# Altium footprint library micron-packages.PcbLib: 3 footprints
Each footprint in its own frame and in the unit in brackets; x right, y up, seen from the top. Pads: shape width x height; smd on the part's side, far side on the other; paste and mask are expansions set on the pad; w line width, h text height; cw(c..) or ccw(c..) is an arc to the next point about the centre after c.
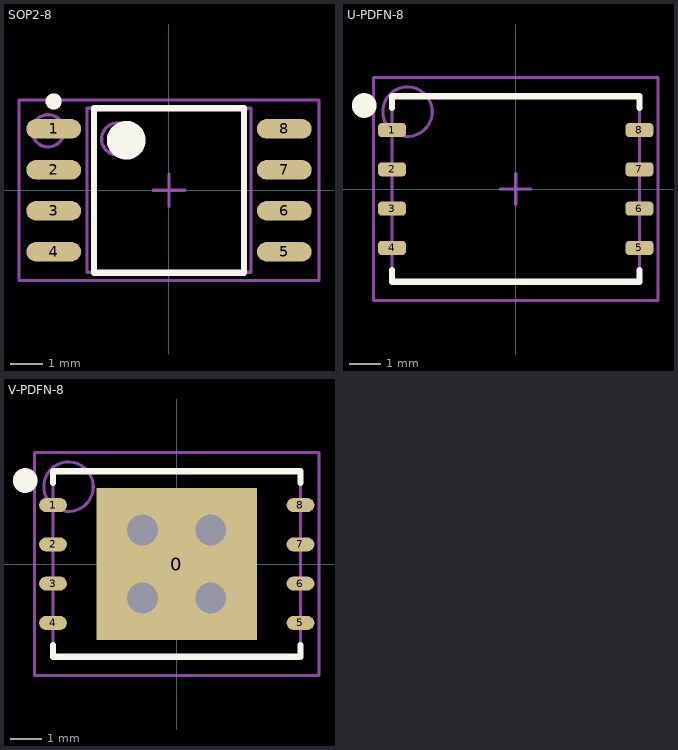
[diagram p0: the footprints below, top view; thin cyan lines are the x and y axes]

## SOP2-8 [mm] "SOIC, 8-Leads, Body 5.1x5.1mm (max), Pitch 1.27mm, IPC Medium Density"
height 1.91
pads (8):
  oval 1.7x0.6 smd: 1(-3.575,1.905) 2(-3.575,0.635) 3(-3.575,-0.635) 4(-3.575,-1.905) 5(3.575,-1.905) 6(3.575,-0.635) 7(3.575,0.635) 8(3.575,1.905)
Top Overlay:
  circle w0.25: c-3.575,2.755 r0.125
  circle w0.6: c-1.325,1.55 r0.3
  lines w0.2: -2.325,-2.55 -2.325,2.55 2.325,2.55 2.325,-2.55 -2.325,-2.55
Mechanical 1:
  circle w0.1: c-1.59,1.59 r0.5
Mechanical 13:
  lines w0.1: -0.5,0 0.5,0 ; 0,-0.5 0,0.5 ; -2.54,-2.54 -2.54,2.54 2.54,2.54 2.54,-2.54 -2.54,-2.54
Mechanical 15:
  circle w0.1: c-3.749,1.844 r0.5
  lines w0.1: -4.65,-2.8 -4.65,2.8 4.65,2.8 4.65,-2.8 -4.65,-2.8
  text ".Designator" at -2.286,-0.127 h0.8
3D body: height 2.1, standoff -0.05, extent -4.1,-2.7 4.1,2.7

## U-PDFN-8 [mm] "QFN, 8-Leads, Body 6.0x8.0mm (max), Pitch 1.27mm, IPC Medium Density"
height 1
pads (8):
  rrect50% 0.9x0.45 smd: 1(-4,1.905) 2(-4,0.635) 3(-4,-0.635) 4(-4,-1.905) 5(4,-1.905) 6(4,-0.635) 7(4,0.635) 8(4,1.905)
Top Overlay:
  circle w0.4: c-4.9,2.7 r0.2
  lines w0.2: -4,-2.625 -4,-3 4,-3 4,-2.625 ; -4,2.625 -4,3 4,3 4,2.625
Mechanical 13:
  lines w0.1: -0.5,0 0.5,0 ; 0,-0.5 0,0.5 ; -4,-3 4,-3 4,3 -4,3 -4,-3
Mechanical 15:
  circle w0.1: c-3.5,2.5 r0.8
  lines w0.1: -4.6,-3.6 4.6,-3.6 4.6,3.6 -4.6,3.6 -4.6,-3.6
  text ".Designator" at -2.786,-0.627 h0.8
3D body: height 1, standoff 0.05, extent -4,-3 4,3

## V-PDFN-8 [mm] "QFN, 8-Leads, Body 6.0x8.0mm (max), Pitch 1.27mm, IPC Medium Density"
height 1
pads (9):
  rect 5.2x4.9 smd: 0(0,0)
  oval 0.9x0.45 smd: 1(-4,1.905) 2(-4,0.635) 3(-4,-0.635) 4(-4,-1.905) 5(4,-1.905) 6(4,-0.635) 7(4,0.635) 8(4,1.905)
via 1.1,-1.1 diameter 1.4 hole 1
via -1.1,-1.1 diameter 1.4 hole 1
via 1.1,1.1 diameter 1.4 hole 1
via -1.1,1.1 diameter 1.4 hole 1
Top Overlay:
  circle w0.4: c-4.9,2.7 r0.2
  lines w0.2: -4,-2.625 -4,-3 4,-3 4,-2.625 ; -4,2.625 -4,3 4,3 4,2.625
Mechanical 13:
  lines w0.1: -0.5,0 0.5,0 ; 0,-0.5 0,0.5 ; -4,-3 4,-3 4,3 -4,3 -4,-3
Mechanical 15:
  circle w0.1: c-3.5,2.5 r0.8
  lines w0.1: -4.6,-3.6 4.6,-3.6 4.6,3.6 -4.6,3.6 -4.6,-3.6
  text ".Designator" at -2.786,-0.627 h0.8
3D body: height 1, standoff 0.05, extent -4,-3 4,3